# Altium schematic symbol library LTC4411.SchLib: 1 symbol
Pins are listed as number, name and electrical type; pins without a type are passive.

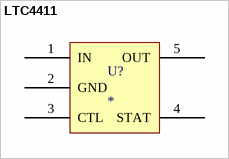
[diagram p0: symbol LTC4411]

## LTC4411
designator U?
Linear Technology LTC4411 - 2.6A Low Loss Ideal Diode; Part No.: LTC4411ES5; Vendor: Linear Technology; Price Est.: $2.36
footprint SOT23-5 (SOT-23/SC-74A; 5 Leads; Body 3 x 3 mm, inc. leads (LxW max))
pins: 1 IN, 2 GND, 3 CTL, 4 STAT, 5 OUT